# Altium footprint library XTALDFN200X160X59-4L.PcbLib: 1 footprints
Each footprint in its own frame and in the unit in brackets; x right, y up, seen from the top. Pads: shape width x height; smd on the part's side, far side on the other; paste and mask are expansions set on the pad; w line width, h text height; cw(c..) or ccw(c..) is an arc to the next point about the centre after c.
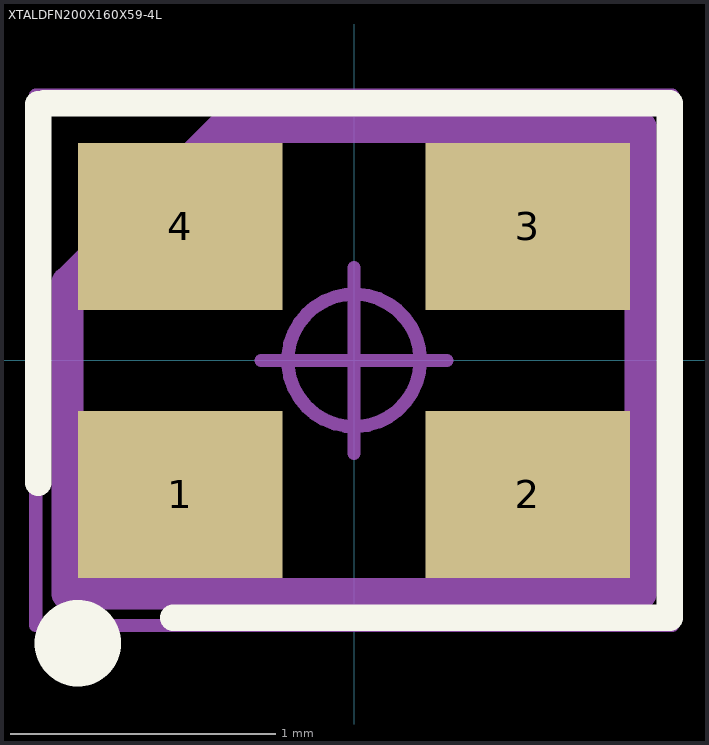
[diagram p0: the footprint, top view; thin cyan lines are the x and y axes]

## XTALDFN200X160X59-4L [mm] "Crystal, Dual Flat No-Lead (DFN 4 Pins), 1.31 mm pitch; 4 pin, 2.00 mm L X 1.60 mm W X 0.59 mm H body"
height 0.59
pads (4):
  rect 0.77x0.63 smd: 1(-0.655,-0.505) 2(0.655,-0.505) 3(0.655,0.505) 4(-0.655,0.505)
Top Overlay:
  circle w0.254: c-1.041,-1.067 r0.036
  lines w0.1: -1.19,-0.461 -1.19,0.965 ; -1.168,0.97 1.19,0.97 1.19,-0.97 -0.681,-0.97
Fab - Detail1, HDI1:
  lines w0.12: -1.08,-0.88 -1.08,0.293 -0.493,0.88 1.08,0.88 1.08,-0.88 -1.08,-0.88
Courtyards/Models - Top:
  circle w0.05: c0,0 r0.25
  lines w0.05: -0.35,0 0.35,0 ; 0,-0.35 0,0.35 ; -1.2,-1 -1.2,1 1.2,1 1.2,-1 -1.2,-1
3D body: height 0.59, standoff 0, extent -1.003,-0.787 1.003,0.813